# Altium schematic symbol library LM3840IMC-5.0.Schlib: 1 symbol
Pins are listed as number, name and electrical type; pins without a type are passive.

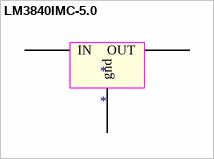
[diagram p0: symbol LM3840IMC-5.0]

## LM3840IMC-5.0
designator *
pins: 1 OUT, 2 IN, 3 gnd